# Altium footprint library ESP32-S3-WROOM-1-N16R8.PcbLib: 1 footprints
Each footprint in its own frame and in the unit in brackets; x right, y up, seen from the top. Pads: shape width x height; smd on the part's side, far side on the other; paste and mask are expansions set on the pad; w line width, h text height; cw(c..) or ccw(c..) is an arc to the next point about the centre after c.
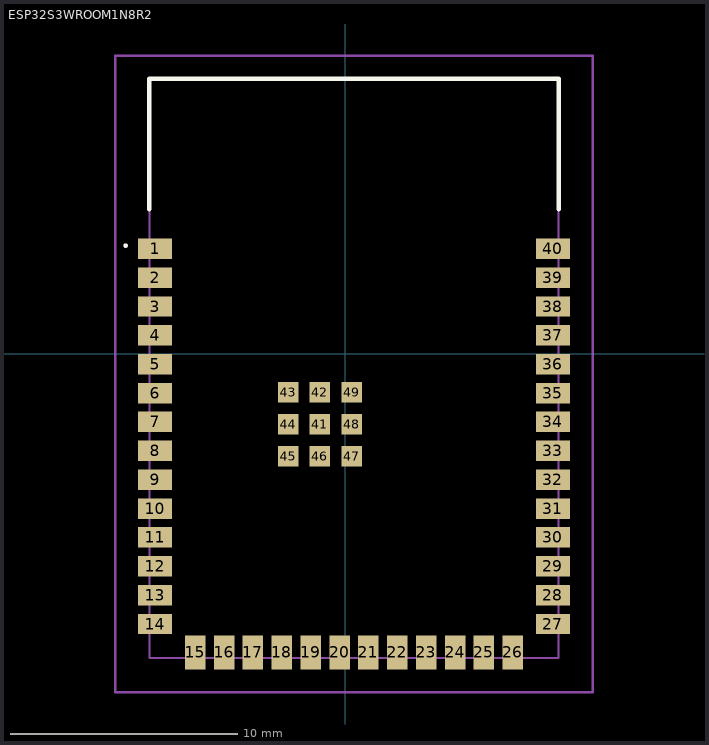
[diagram p0: the footprint, top view; thin cyan lines are the x and y axes]

## ESP32S3WROOM1N8R2 [mm] "Bluetooth, WiFi 802.11b/g/n, Bluetooth v5.0 Transceiver Module 2.4GHz PCB Trace Surface Mount"
pads (49):
  rect 1.5x0.9 smd: 1(-8.369,4.625) 2(-8.369,3.355) 3(-8.369,2.085) 4(-8.369,0.815) 5(-8.369,-0.455) 6(-8.369,-1.725) 7(-8.369,-2.995) 8(-8.369,-4.265) 9(-8.369,-5.535) 10(-8.369,-6.805) 11(-8.369,-8.075) 12(-8.369,-9.345) 13(-8.369,-10.615) 14(-8.369,-11.885) 27(9.131,-11.885) 28(9.131,-10.615) 29(9.131,-9.345) 30(9.131,-8.075) 31(9.131,-6.805) 32(9.131,-5.535) 33(9.131,-4.265) 34(9.131,-2.995) 35(9.131,-1.725) 36(9.131,-0.455) 37(9.131,0.815) 38(9.131,2.085) 39(9.131,3.355) 40(9.131,4.625)
  rect 0.9x1.5 smd: 15(-6.604,-13.135) 16(-5.334,-13.135) 17(-4.064,-13.135) 18(-2.794,-13.135) 19(-1.524,-13.135) 20(-0.254,-13.135) 21(1.016,-13.135) 22(2.286,-13.135) 23(3.556,-13.135) 24(4.826,-13.135) 25(6.096,-13.135) 26(7.366,-13.135)
  rect 0.9x0.9 smd: 41(-1.119,-3.095) 42(-1.119,-1.695) 43(-2.519,-1.695) 44(-2.519,-3.095) 45(-2.519,-4.495) 46(-1.119,-4.495) 47(0.281,-4.495) 48(0.281,-3.095) 49(0.281,-1.695)
Top Overlay:
  lines w0.1: -9.719,4.765 cw(c-9.669,4.765) -9.619,4.765 cw(c-9.669,4.765) -9.719,4.765
  lines w0.2: -8.619,6.365 -8.619,12.115 9.381,12.115 9.381,6.365
Mechanical 13:
  lines w0.1: -10.119,-14.885 10.881,-14.885 10.881,13.115 -10.119,13.115 -10.119,-14.885 ; -8.619,-13.385 9.381,-13.385 9.381,12.115 -8.619,12.115 -8.619,-13.385
3D body "step_temp.STEP": height 3.25, standoff 0, extent -8.619,-13.385 9.381,12.115